# EAGLE library part H25 (library aurigaBot)
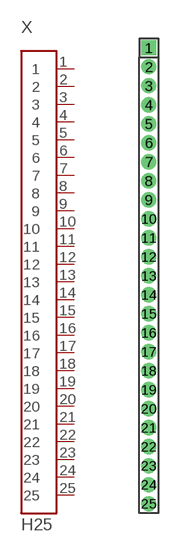
[diagram p9: symbol with the pads of HEADER25_50MIL; footprint HEADER25_50MIL]

Designator prefix X

## H2550MIL  [HEADER25_50MIL]
1  1
2  2
3  3
4  4
5  5
6  6
7  7
8  8
9  9
10  10
11  11
12  12
13  13
14  14
15  15
16  16
17  17
18  18
19  19
20  20
21  21
22  22
23  23
24  24
25  25

## Footprint HEADER25_50MIL (pad centres in mm)
drill 0.5 pad 0.813 square: 1 0,13.97
drill 0.5 pad 0.813 round: 2 0,12.7; 3 0,11.43; 4 0,10.16; 5 0,8.89; 6 0,7.62; 7 0,6.35; 8 0,5.08; 9 0,3.81; 10 0,2.54; 11 0,1.27; 12 0,0; 13 0,-1.27; 14 0,-2.54; 15 0,-3.81; 16 0,-5.08; 17 0,-6.35; 18 0,-7.62; 19 0,-8.89; 20 0,-10.16; 21 0,-11.43; 22 0,-12.7; 23 0,-13.97; 24 0,-15.24; 25 0,-16.51